# EAGLE library part ELM322SM (library ELM)
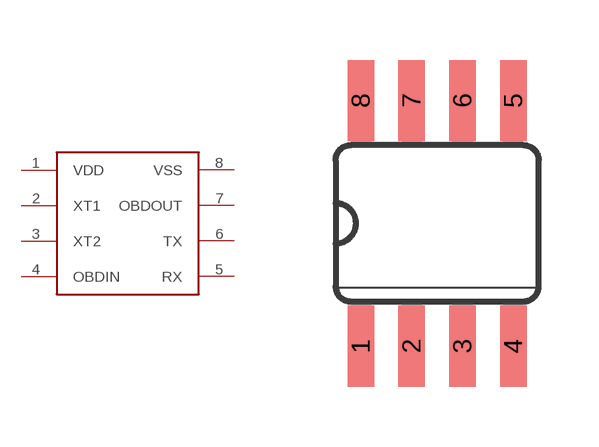
[diagram p3: symbol with the pads of ELM322SM; footprint ELM322SM]

Designator prefix -

## ELM322SM  [ELM322SM]
1  VDD  pwr
2  XT1
3  XT2
4  OBDIN
5  RX
6  TX
7  OBDOUT
8  VSS  pwr

## Footprint ELM322SM (pad centres in mm)
smd 0.66 x 2.032: 1 -3.175,2.007; 2 -1.905,2.007; 3 -0.635,2.007; 4 0.635,2.007; 5 0.635,8.153; 6 -0.635,8.153; 7 -1.905,8.153; 8 -3.175,8.153